# Altium integrated library PYBE30-Q24-S24.IntLib: 1 symbol
Pins are listed as number, name and electrical type; pins without a type are passive.

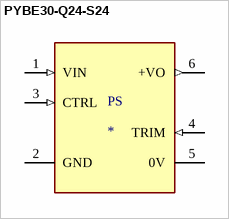
[diagram p0: symbol PYBE30-Q24-S24]

## PYBE30-Q24-S24
designator PS
30 W, 4:1 Input Range, Single/Dual Regulated Output,  DIP, 1500 Vdc Isolation, Dc-Dc Converter; MP: PYBE30-Q24-S24; MF: CUI Inc.; SnapEDA_Link: https://www.snapeda.com/parts/PYBE30-Q24-S24/CUI/view-part/3228820/?ref=snap; Digi-Key_Purchase_URL: https://www.digikey.com/product-detail/en/cui-inc/PYBE30-Q24-S24/102-6020-ND/9859976?utm_source=snapeda&utm_medium=aggregator&utm_campaign=symbol; CUI_purchase_URL: https://www.cui.com/product/dc-dc-converters/isolated/pybe30-series?utm_source=snapeda.com&utm_medium=referral&utm_campaign=snapedaBOM; Digi-Key_Part_Number: 102-6020-ND; Value: *; Package: DIP-6 CUI Inc.
footprint CONV_PYBE30-Q24-S24
pins: 1 VIN (in), 2 GND (power), 3 CTRL (in), 4 TRIM (in), 5 0V (power), 6 +VO (out)